# Altium footprint library PCB - CRYSTALS - ECS ECS-TXO-25CSMV.PCBLIB: 1 footprints
Each footprint in its own frame and in the unit in brackets; x right, y up, seen from the top. Pads: shape width x height; smd on the part's side, far side on the other; paste and mask are expansions set on the pad; w line width, h text height; cw(c..) or ccw(c..) is an arc to the next point about the centre after c.
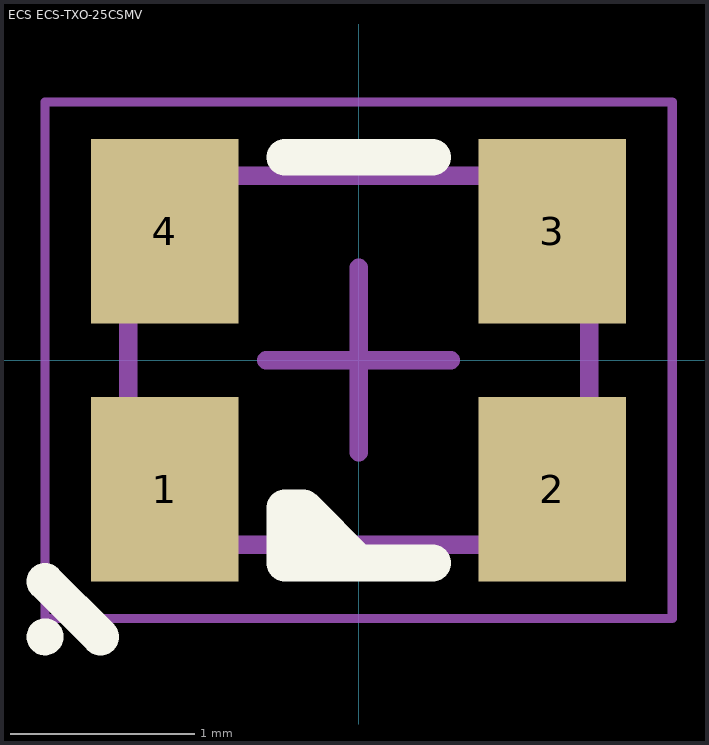
[diagram p0: the footprint, top view; thin cyan lines are the x and y axes]

## ECS ECS-TXO-25CSMV [mm] "Crystal, 4-Leads, Body 2.5x2.0mm"
height 1
pads (4):
  rect 0.8x1 smd: 1(-1.05,-0.7) 2(1.05,-0.7) 3(1.05,0.7) 4(-1.05,0.7)
Top Overlay:
  circle w0.1: c-1.7,-1.5 r0.05
  region: -0.4,-0.8 -0.4,-1.1 0,-1.1 -0.3,-0.8
  lines w0.2: -1.7,-1.2 -1.4,-1.5 ; -0.4,1.1 0.4,1.1 ; 0,-1.1 -0.3,-0.8 -0.4,-0.8 -0.4,-1.1 0.4,-1.1
Mechanical 13:
  lines w0.1: -1.25,-1 -1.25,1 1.25,1 1.25,-1 -1.25,-1
Mechanical 15:
  lines w0.05: -1.7,-1.4 -1.7,1.4 1.7,1.4 1.7,-1.4 -1.7,-1.4
  lines w0.1: -0.5,0 0.5,0 ; 0,-0.5 0,0.5
3D body "ECS ECS-TXO-25CSMV.step": height 0.9, standoff 0, extent -1.25,-1 1.25,1